# Altium footprint library Schottky_Diode.PcbLib: 1 footprints
Each footprint in its own frame and in the unit in brackets; x right, y up, seen from the top. Pads: shape width x height; smd on the part's side, far side on the other; paste and mask are expansions set on the pad; w line width, h text height; cw(c..) or ccw(c..) is an arc to the next point about the centre after c.
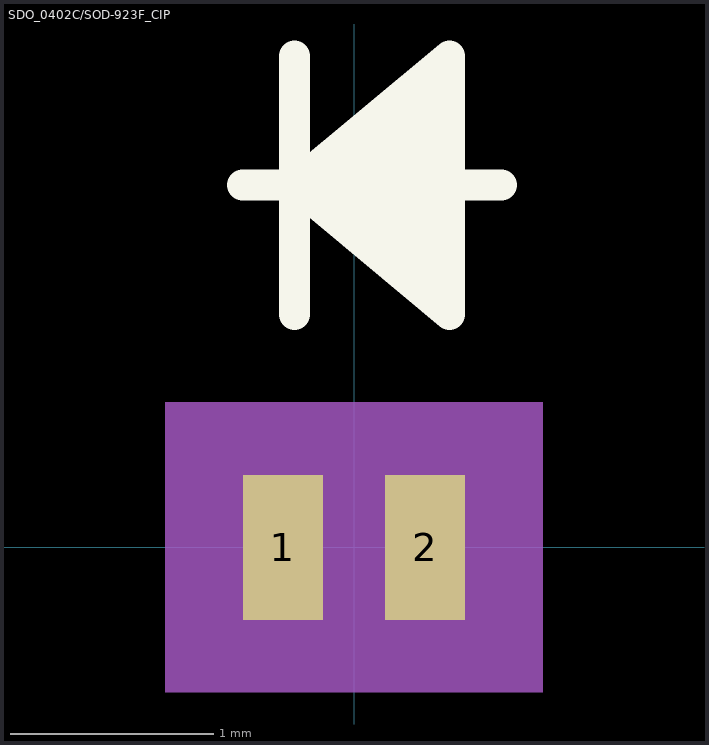
[diagram p0: the footprint, top view; thin cyan lines are the x and y axes]

## SDO_0402C/SOD-923F_CIP [mil]
pads (2):
  rect 15.5x28 smd paste+0 mask+0: 1(-13.75,0) 2(13.75,0)
Top Overlay:
  lines w6: -21.5,70 28.5,70 ; -11.5,45 -11.5,95 ; 18.5,50 -11.5,70 ; 18.5,55 -11.5,70 ; 18.5,60 -11.5,70 ; 18.5,65 -11.5,70 ; 18.5,75 -11.5,70 ; 18.5,80 -11.5,70 ; 18.5,85 -11.5,70 ; 18.5,90 -11.5,70 ; -11.5,70 18.5,95 18.5,45 -11.5,70
Mechanical 5:
  region: 36.5,-28 -36.5,-28 -36.5,28 36.5,28
Mechanical 13:
  lines w1: -21.5,70 28.5,70 ; -11.5,45 -11.5,95 ; 18.5,50 -11.5,70 ; 18.5,55 -11.5,70 ; 18.5,60 -11.5,70 ; 18.5,65 -11.5,70 ; 18.5,75 -11.5,70 ; 18.5,80 -11.5,70 ; 18.5,85 -11.5,70 ; 18.5,90 -11.5,70 ; -11.5,70 18.5,95 18.5,45 -11.5,70 ; -20.5,-13 20.5,-13 20.5,13 -20.5,13 -20.5,-13
Mechanical 15:
  region: -30.5,-24 -31.5,-24 -31.5,24 -30.5,24 30.5,24 31.5,24 31.5,-24 30.5,-24
  lines w6: -31.5,-24 -31.5,24 -30.5,24 30.5,24 31.5,24 31.5,-24 30.5,-24 -30.5,-24 -31.5,-24
3D body: height 10, standoff 0, extent 0,0 10,10